# Altium schematic symbol library Electromechanical Sym Lib.SchLib: 5 symbols
Pins are listed as number, name and electrical type; pins without a type are passive.

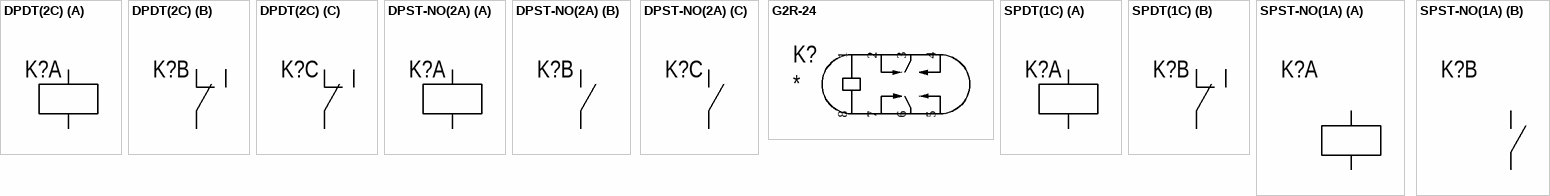
[diagram p0: symbols DPDT(2C) to SPST-NO(1A)]

## DPDT(2C)
designator K?  (value not drawn)
part A pins: CoilA Coil "First Coil Pin", CoilB Coil "Second Coil Pin"
part B pins: 1A NO "NO Pin of Contact Group 1", 1B NC "NC Pin of Contact Group 1", 1C NO "Common Pin of Contact Group 1"
part C pins: 2A NO "NO Pin of Contact Group 2", 2B NC "NC Pin of Contact Group 2", 2C NO "Common Pin of Contact Group 2"

## DPST-NO(2A)
designator K?  (value not drawn)
part A pins: CoilA Coil "First Coil Pin", CoilB Coil "Second Coil Pin"
part B pins: 1A NO "Fist Pin of NO Contact A", 1C NO "Second Pin of NO Contact B"
part C pins: 2A NO "Fist Pin of NO Contact A", 2C NO "Second Pin of NO Contact A"

## G2R-24
designator K?
Model: *
pins: 1 "Anode LED pin", 2 "Vout pin", 3 "Vout pin", 4 "Vout pin", 5 "Emitter Phototransistor pin", 6 "Emitter Phototransistor pin", 7 "Emitter Phototransistor pin", 8 "Cathode LED pin"

## SPDT(1C)
designator K?  (value not drawn)
part A pins: CoilA Coil "First Coil Pin", CoilB Coil "Second Coil Pin"
part B pins: 1A NO "NO Pin of Contact Group 1", 1B NC "NC Pin of Contact Group 1", 1C NO "Common Pin of Contact Group 1"

## SPST-NO(1A)
designator K?  (value not drawn)
part A pins: CoilA Coil "First Coil Pin", CoilB Coil "Second Coil Pin"
part B pins: 1A NO "Fist Pin of NO Contact", 1C NO "Second Pin of NO Contact"